# Altium integrated library 5023860671.IntLib: 1 symbol
Pins are listed as number, name and electrical type; pins without a type are passive.

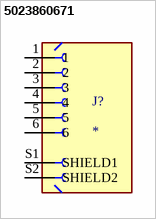
[diagram p0: symbol 5023860671]

## 5023860671
designator J?
1.25mm Pitch CLIK-Mate Wire-to-Board PCB Receptacle, Single Row, Right-Angle, Gold (Au) Plating, 6 Circuits; MP: 5023860671; MF: Molex; Availability: In Stock; Check_prices: https://www.snapeda.com/parts/5023860671/Molex/view-part/?ref=eda; Value: *; Package: None; Price: None; SnapEDA_Link: https://www.snapeda.com/parts/5023860671/Molex/view-part/?ref=snap; Purchase-URL: https://pricing.snapeda.com/search/part/5023860671/?ref=eda
footprint MOLEX_5023860671
pins: 1, 2, 3, 4, 5, 6, S1 SHIELD1, S2 SHIELD2